# Altium footprint library Resistor.PcbLib: 42 footprints (part 1 of 3)
Each footprint in its own frame and in the unit in brackets; x right, y up, seen from the top. Pads: shape width x height; smd on the part's side, far side on the other; paste and mask are expansions set on the pad; w line width, h text height; cw(c..) or ccw(c..) is an arc to the next point about the centre after c.
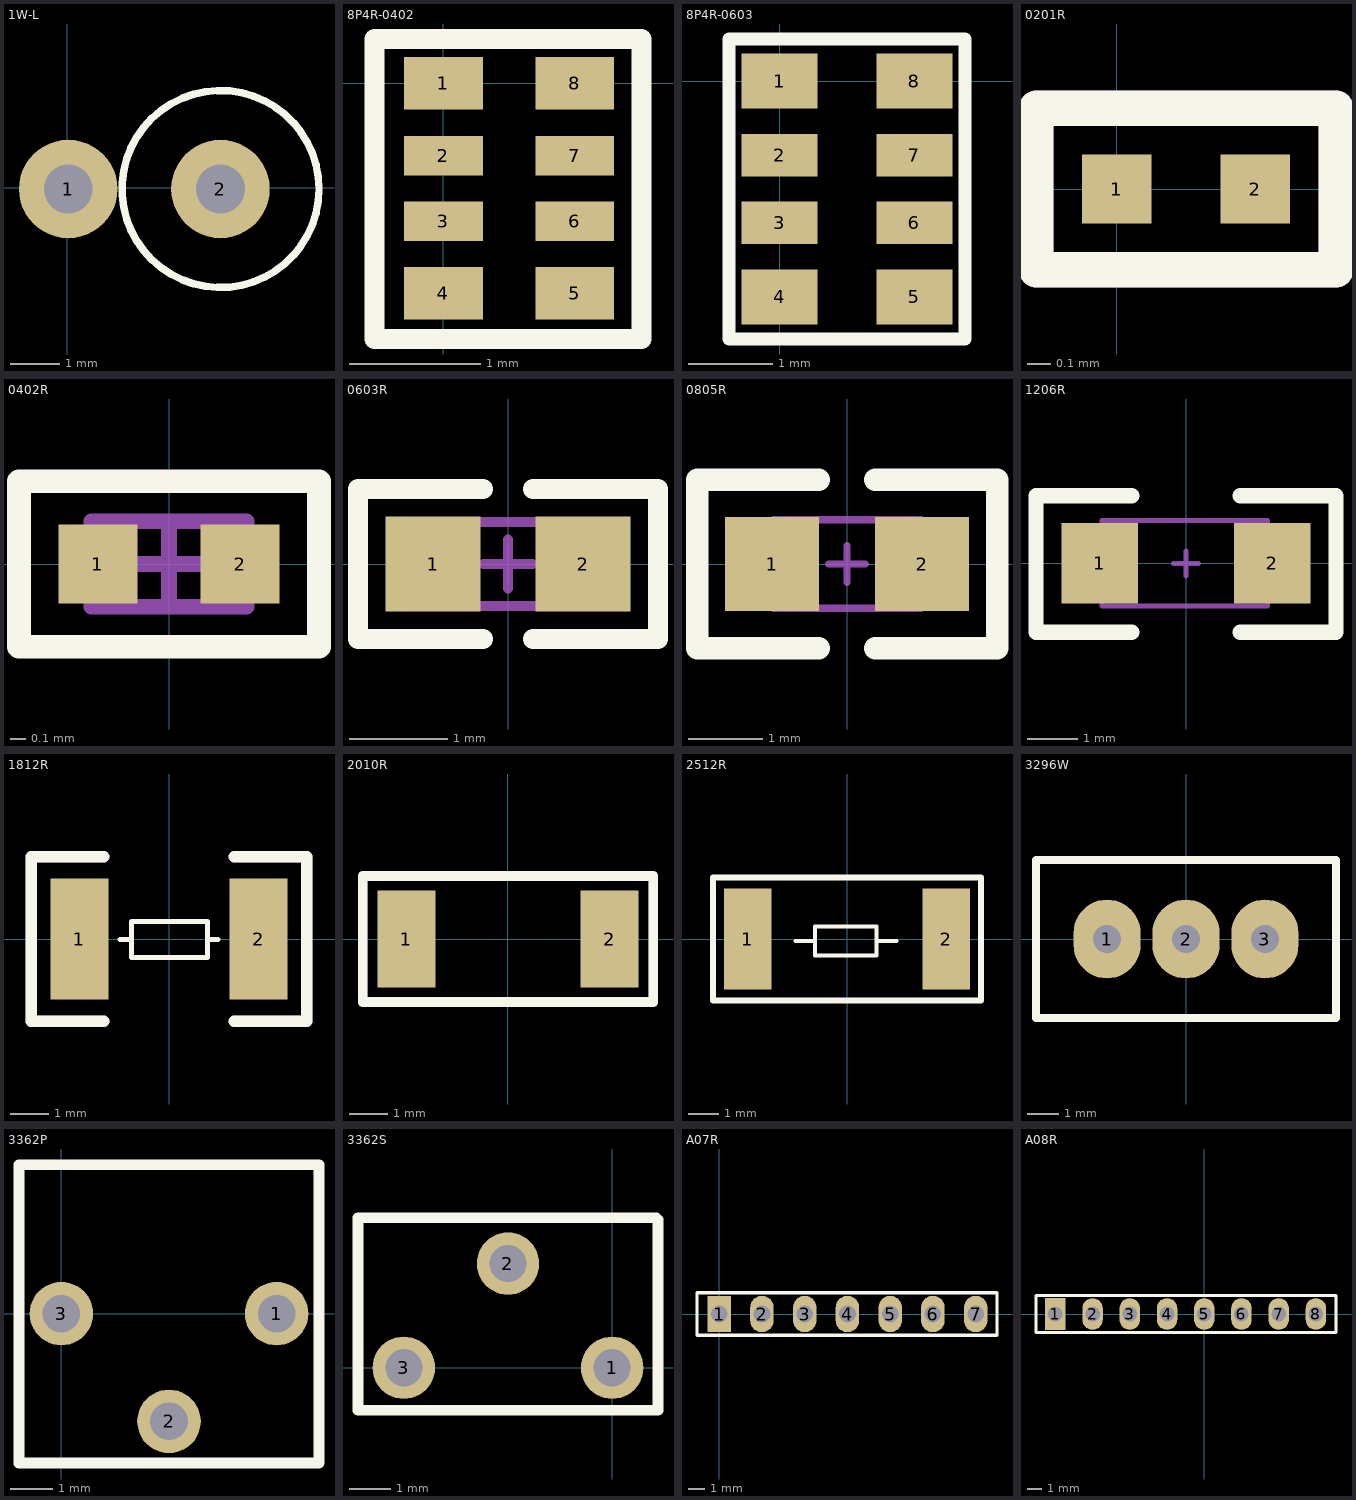
[diagram p0: the footprints below, top view; thin cyan lines are the x and y axes]

## 1W-L [mil]
pads (2):
  round 79 hole 39: 1(0.95,-1) 2(123,-1)
Top Overlay:
  circle w6: c123,-1 r79
Bottom Courtyard:
  text ".Designator" at 381.75,-21.67 h60
3D body "1W Carbon Film Resistor.STEP": height 572.61, standoff -75.5, extent -14.23,-84.35 206.23,81

## 8P4R-0402 [mm]
pads (8):
  rect 0.6x0.4 smd: 1(0,0) 4(0,-1.6) 5(1,-1.6) 8(1,0)
  rect 0.6x0.3 smd: 2(0,-0.55) 3(0,-1.05) 6(1,-1.05) 7(1,-0.55)
Top Overlay:
  lines w0.152: -0.524,-1.947 -0.524,0.339 1.508,0.339 1.508,-1.947 -0.524,-1.947
Bottom Courtyard:
  text ".Designator" at 8.11,-1.312 h1.52
3D body "8P4R-0402.STEP": height 0.45, standoff 0, extent 0.016,-1.813 1.016,0.187

## 8P4R-0603 [mm]
pads (8):
  rect 0.9x0.65 smd: 1(0,0) 4(0,-2.56) 5(1.6,-2.56) 8(1.6,0)
  rect 0.9x0.5 smd: 2(0,-0.88) 3(0,-1.68) 6(1.6,-1.68) 7(1.6,-0.88)
Top Overlay:
  lines w0.152: -0.597,-3.058 -0.597,0.498 2.197,0.498 2.197,-3.058 -0.597,-3.058
Bottom Courtyard:
  text ".Designator" at 8.418,-1.788 h1.52
3D body "8P4R-0603.STEP": height 0.6, standoff 0, extent 0.051,-2.87 1.651,0.33

## 0201R [mm]
pads (2):
  rect 0.3x0.3 smd: 1(0,0) 2(0.6,0)
Top Overlay:
  lines w0.152: -0.35,-0.35 0.95,-0.35 0.95,0.35 -0.35,0.35 -0.35,-0.35
Bottom Component Center:
  lines w0.152: -0.35,-0.35 -0.35,0.35 0.95,0.35 0.95,-0.35 -0.35,-0.35
  text ".Designator" at -0.254,-0.076 h0.2
Bottom Courtyard:
  text ".Designator" at 8.319,-0.508 h1.52
3D body "0201R.STEP": height 0.34, standoff 0, extent -0.035,-0.165 0.645,0.165

## 0402R [mil]
pads (2):
  rect 20x20 smd: 1(-18,0) 2(18,0)
Top Overlay:
  lines w6: -38,-21 38,-21 38,21 -38,21 -38,-21
Top Component Outline:
  lines w3.94: -19.68,-10.82 19.69,-10.82 19.69,10.83 -19.68,10.83 -19.68,-10.82
Top Component Center:
  lines w3.94: -9.84,0 9.84,0 ; 0,-9.84 0,9.84
Top Value:
  text "'.Comment'" at -43.4,-5.99 h20
Top Designator:
  text "'.Designator'" at -71.15,-5.2 h25
3D body "res_0402.stp": height 15.75, standoff 0, extent -19.68,-10.82 19.69,10.83

## 0603R [mil]
pads (2):
  rect 38x38 smd: 1(-30,0) 2(30,0)
Top Overlay:
  lines w8: -10,-30 -60,-30 -60,30 -10,30 ; 10,-30 60,-30 60,30 10,30
Top Component Outline:
  lines w3.94: -31.5,-16.73 -31.5,16.73 31.5,16.73 31.5,-16.73 -31.5,-16.73
Top Component Center:
  lines w3.94: -9.84,0 9.84,0 ; 0,-9.84 0,9.84
Top Value:
  text "'.Comment'" at -53.89,-7.44 h25
Top Designator:
  text "'.Designator'" at -85.66,-11.64 h30
3D body "res_0603.stp": height 23.62, standoff 0, extent -31.49,-16.73 31.5,16.74

## 0805R [mil]
pads (2):
  rect 50x50 smd: 1(-40,0) 2(40,0)
Top Overlay:
  lines w12: -15,-45 -80,-45 -80,45 -15,45 ; 15,-45 80,-45 80,45 15,45
Top Component Outline:
  lines w3.94: -39.37,-23.62 -39.37,23.62 39.37,23.62 39.37,-23.62 -39.37,-23.62
Top Component Center:
  lines w3.94: -9.85,0 9.84,0 ; 0,-9.85 0,9.84
Top Value:
  text "'.Comment'" at -75.92,-10.48 h35
Top Designator:
  text "'.Designator'" at -114.84,-15.6 h40
3D body "res_0805.stp": height 25.59, standoff 0, extent -39.36,-23.62 39.38,23.63

## 1206R [mil]
pads (2):
  rect 60x62.99 smd: 1(-67.5,0) 2(67.5,0)
Top Overlay:
  lines w12: -42.5,-54 -117.5,-54 -117.5,53 -42.5,53 ; 42.5,-54 117.5,-54 117.5,53 42.5,53
Top Component Outline:
  lines w3.94: -65.94,-33.46 63.98,-33.46 63.98,33.46 -65.94,33.46 -65.94,-33.46
Top Component Center:
  lines w3.94: -9.84,0 9.84,0 ; 0,-9.84 0,9.84
Top Value:
  text "'.Comment'" at -75.92,-10.48 h35
Top Designator:
  text "'.Designator'" at -114.84,-15.6 h40
3D body "RESC-1206.stp": height 25.59, standoff 0, extent -65.94,-33.46 63.98,33.47

## 1812R [mil]
pads (2):
  rect 60x125 smd: 1(-92.5,0) 2(92.5,0)
Top Overlay:
  lines w5.12: -50.5,-0.61 -38.87,-0.61 ; 39.87,-0.61 50.5,-0.61 ; -38.87,-19.31 39.87,-19.31 39.87,18.09 -38.87,18.09 -38.87,-19.31
  lines w12: -67.5,-85 -142.5,-85 -142.5,85 -67.5,85 ; 67.5,-85 142.5,-85 142.5,85 67.5,85
Bottom Courtyard:
  lines w12: -67.5,-85 -142.5,-85 -142.5,85 -67.5,85 ; 67.5,-85 142.5,-85 142.5,85 67.5,85
  text ".Designator" at 299.9,-19.99 h60
3D body "User Library-Resistors1812.STEP": height 24.11, standoff -0.49, extent -97.07,-63.49 82.06,63.48

## 2010R [mm]
pads (2):
  rect 1.52x2.54 smd: 1(-2.665,0) 2(2.665,0)
Top Overlay:
  lines w0.254: -3.81,-1.651 -3.81,1.651 3.81,1.651 3.81,-1.651 -3.81,-1.651
Bottom Component Center:
  lines w0.254: -3.81,-1.651 3.81,-1.651 3.81,1.651 -3.81,1.651 -3.81,-1.651
  text ".Designator" at -3.073,-0.432 h1.27
Bottom Courtyard:
  text ".Designator" at 10.524,-0.508 h1.52
3D body "2010R.STEP": height 0.47, standoff 0, extent -2.498,-1.251 2.502,1.251

## 2512R [mil]
pads (2):
  rect 61x129.92 smd: 1(-127.5,0) 2(127.5,0)
Top Overlay:
  lines w5.12: -66.35,-2.61 -40.76,-2.61 ; 37.98,-2.61 63.57,-2.61 ; -40.76,-21.31 -40.76,16.09 37.98,16.09 37.98,-21.31 -40.76,-21.31
  lines w7.87: -171.78,-78.74 -171.78,78.74 171.78,78.74 171.78,-78.74 -171.78,-78.74
Bottom Component Center:
  text ".Designator" at -105.43,20.91 h40
  text ".Comment" at -107.19,-48.67 h40
Bottom Courtyard:
  text ".Designator" at 361.26,-19.99 h60
3D body "User Library-res2512_body.step": height 24.44, standoff 0, extent -124.39,-65 124.39,61

## 3296W [mil]
pads (3):
  oval 85x100 hole 35: 1(-100,0) 2(0,0) 3(100,0)
Top Overlay:
  lines w10: -190,-100 190,-100 190,100 -190,100 -190,-100
Bottom Courtyard:
  text ".Designator" at 299.9,-19.99 h60
3D body "User Library-3296W.step": height 454.72, standoff -62.99, extent -187.6,-94.49 187.6,94.49

## 3362P [mm]
pads (3):
  round 1.5 hole 0.889: 1(5.08,0) 2(2.54,-2.54) 3(0,0)
Top Overlay:
  lines w0.254: -1,-3.531 -1,3.516 ; -1,-3.524 6.08,-3.524 ; -0.991,3.516 6.08,3.516 6.08,-3.505
Bottom Courtyard:
  text ".Designator" at 10.158,-0.46 h1.52
3D body "3362P.STEP": height 4.7, standoff -5.47, extent -0.76,-3.3 5.84,3.754

## 3362S [mm]
pads (3):
  round 1.5 hole 0.889: 1(0,0) 2(-2.5,2.5) 3(-5,0)
Top Overlay:
  lines w0.254: -6.1,-1.016 1.1,-1.016 ; -6.1,-1.016 -6.1,3.596 1.06,3.596 1.1,3.556 1.1,-1.016 ; -6.1,-1.016 1.1,-1.016
Bottom Courtyard:
  text ".Designator" at 5.118,0.719 h1.52
3D body "3362S.STEP": height 7.11, standoff -5.39, extent -5.84,-1.268 0.76,3.432

## A07R [mil]
pads (7):
  rect 55x85 hole 39: 1(0,0)
  oval 55x85 hole 39: 2(100,0) 3(200,0) 4(300,0) 5(400,0) 6(500,0) 7(600,0)
Top Overlay:
  lines w7.87: -52,-50 650,-50 650,50 100,50 48,50 -52,50 -52,-50
Bottom Courtyard:
  text ".Designator" at 598.9,-19.99 h60

## A08R [mil]
pads (8):
  rect 55x85 hole 39: 1(-400,0)
  oval 55x85 hole 39: 2(-300,0) 3(-200,0) 4(-100,0) 5(0,0) 6(100,0) 7(200,0) 8(300,0)
Top Overlay:
  lines w7.87: -452,-50 354,-50 354,50 -300,50 -352,50 -452,50 -452,-50
Bottom Courtyard:
  text ".Designator" at 250.9,-19.99 h60
3D body "User Library-4600H Series (Bourns).step": height 306.75, standoff -173.31, extent -449.02,-50 349.02,48.03